# Altium footprint library Flow_Pump.PcbLib: 78 footprints (part 5 of 5)
Each footprint in its own frame and in the unit in brackets; x right, y up, seen from the top. Pads: shape width x height; smd on the part's side, far side on the other; paste and mask are expansions set on the pad; w line width, h text height; cw(c..) or ccw(c..) is an arc to the next point about the centre after c.
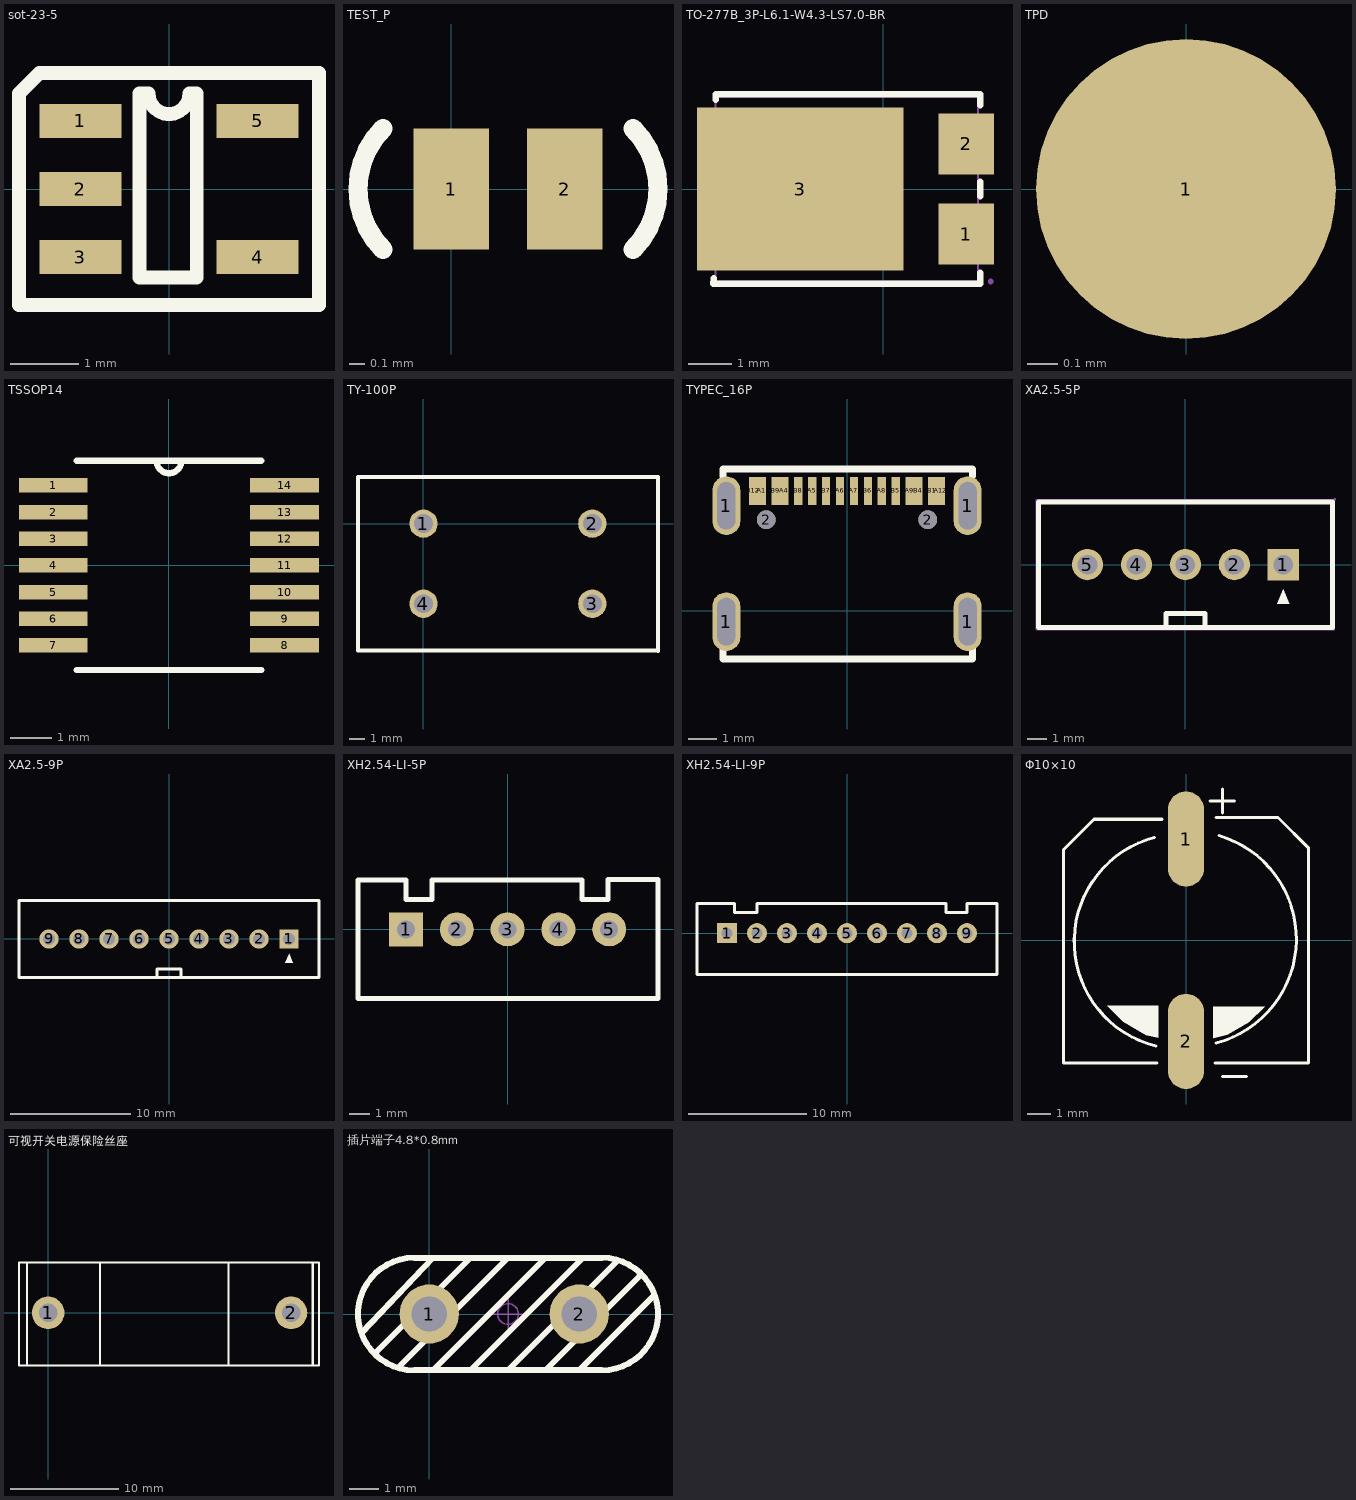
[diagram p4: the footprints below, top view; thin cyan lines are the x and y axes]

## sot-23-5 [mm]
height 1.76
pads (5):
  rect 1.2x0.5 smd: 1(-1.3,1) 2(-1.3,0) 3(-1.3,-1) 4(1.3,-1) 5(1.3,1)
Top Overlay:
  lines w0.203: -2.2,-1.7 -2.2,1.4 -1.9,1.7 2.2,1.7 2.2,-1.7 -2.2,-1.7 ; -0.432,-1.3 -0.432,1.4 -0.3,1.4 ccw(c0,1.4) 0.3,1.4 0.406,1.4 0.406,-1.3 -0.432,-1.3

## TEST_P [mm]
height 0.75
pads (2):
  rect 0.5x0.8 smd: 1(0,0) 2(0.75,0)
Top Overlay:
  lines w0.127: -0.45,-0.4 cw(c-0.05,0) -0.45,0.4 ; 1.2,-0.4 ccw(c0.8,0) 1.2,0.4

## TO-277B_3P-L6.1-W4.3-LS7.0-BR [mm]
height 0.75
pads (3):
  rect 1.29x1.422 smd: 1(1.933,-1.05) 2(1.933,1.05)
  rect 4.8x3.8 smd: 3(-1.933,0)
Top Overlay:
  lines w0.152: -3.949,-2.08 -3.95,-2.2 2.25,-2.2 2.25,-1.948 ; -3.901,2.08 -3.9,2.2 2.25,2.2 2.25,1.948 ; 2.25,-0.165 2.25,0.165
Mechanical 6:
  region: -0.6,0.7 -0.6,-0.7 -1.6,0
Mechanical 15:
  region: 1.5,-0.5 2.5,-0.5 2.5,-1.6 1.5,-1.6
  region: 1.5,1.6 2.5,1.6 2.5,0.5 1.5,0.5
  region: -3.95,-1.8 -3.95,-1.1 -4.25,-1.1 -4.25,1.1 -3.9,1.1 -3.9,1.7 0.25,1.7 0.25,-1.8
  region: 2.56,-2.15 2.56,-2.125 2.525,-2.09 2.475,-2.09 2.44,-2.125 2.44,-2.15 2.44,-2.175 2.475,-2.21 2.525,-2.21 2.56,-2.175 2.56,-2.15
  lines w0.051: -3.9,-2.15 2.2,-2.15 2.2,2.15 -3.9,2.15 -3.9,-2.15

## TPD [mm]
height 1.4
pads (1):
  round 1 smd: 1(0,0)

## TSSOP14 [mil]
height 29.53
pads (14):
  rect 66x14 smd: 1(-111,76.77) 2(-111,51.18) 3(-111,25.59) 4(-111,0) 5(-111,-25.59) 6(-111,-51.18) 7(-111,-76.77) 8(111,-76.77) 9(111,-51.18) 10(111,-25.59) 11(111,0) 12(111,25.59) 13(111,51.18) 14(111,76.77)
Top Overlay:
  lines w6: -88.5,-100.5 88.5,-100.5 ; -88.5,100.5 88.5,100.5 ; -12,100.5 ccw(c0,100.5) 12,100.5

## TY-100P [mm]
height 0.75
pads (4):
  round 1.8 hole 1.2: 1(0,0) 2(10.7,0) 3(10.7,-5.08) 4(0,-5.08)
Top Overlay:
  lines w0.254: 14.85,-8.04 -4.15,-8.04 -4.15,2.96 14.85,2.96 ; 14.859,-8.079 14.859,2.921

## TYPEC_16P [mm]
height 0.75
pads (22):
  oval 1x2.1 hole 0.65 slot 1.7 at 90 deg: 1(-4.32,-0.391) 1(-4.32,3.759) 1(4.32,-0.391) 1(4.32,3.759)
  round 0.67 hole 0.67: 2(-2.89,3.259) 2(2.89,3.259)
  rect 0.3x1 smd: A1(-3.05,4.293) A4(-2.25,4.293) A5(-1.25,4.293) A6(-0.25,4.293) A7(0.25,4.293) A8(1.25,4.293) A9(2.25,4.293) A12(3.35,4.293) B1(3.05,4.293) B4(2.55,4.293) B5(1.75,4.293) B6(0.75,4.293) B7(-0.75,4.293) B8(-1.75,4.293) B9(-2.55,4.293) B12(-3.35,4.293)
Top Overlay:
  lines w0.254: -4.445,-1.219 -4.445,-1.727 4.495,-1.727 4.495,-1.193 ; -4.445,4.801 -4.445,5.073 4.495,5.073 4.495,4.825

## XA2.5-5P [mm] "间距2.5mm"
pads (5):
  rect 1.6x1.6 hole 1: 1(5,0)
  round 1.6 hole 1: 2(2.5,0) 3(0,0) 4(-2.5,0) 5(-5,0)
Top Overlay:
  region: 4.7,-2 5.3,-2 5,-1.25
  lines w0.254: -7.5,-3.2 7.5,-3.2 7.5,3.2 -7.5,3.2 -7.5,-3.2 ; -1,-3.2 1,-3.2 1,-2.5 -1,-2.5 -1,-3.2
Mechanical 15:
  region: 7.687,3.327 7.687,3.352 7.652,3.387 7.602,3.387 7.567,3.352 7.567,3.327 7.567,3.302 7.602,3.267 7.652,3.267 7.687,3.302
  region: 5.4,0 5.4,0.08 5.339,0.227 5.227,0.339 5.08,0.4 4.92,0.4 4.773,0.339 4.661,0.227 4.6,0.08 4.6,0 4.6,-0.08 4.661,-0.227 4.773,-0.339 4.92,-0.4 5.08,-0.4 5.227,-0.339 5.339,-0.227 5.4,-0.08
  region: 2.9,0 2.9,0.08 2.839,0.227 2.727,0.339 2.58,0.4 2.421,0.4 2.274,0.339 2.161,0.227 2.1,0.08 2.1,0 2.1,-0.08 2.161,-0.227 2.274,-0.339 2.421,-0.4 2.58,-0.4 2.727,-0.339 2.839,-0.227 2.9,-0.08
  region: 0.4,0 0.4,0.08 0.339,0.227 0.227,0.339 0.08,0.4 -0.08,0.4 -0.227,0.339 -0.339,0.227 -0.4,0.08 -0.4,0 -0.4,-0.08 -0.339,-0.227 -0.227,-0.339 -0.08,-0.4 0.08,-0.4 0.227,-0.339 0.339,-0.227 0.4,-0.08
  region: -2.1,0 -2.1,0.08 -2.161,0.227 -2.274,0.339 -2.421,0.4 -2.58,0.4 -2.727,0.339 -2.839,0.227 -2.9,0.08 -2.9,0 -2.9,-0.08 -2.839,-0.227 -2.727,-0.339 -2.58,-0.4 -2.421,-0.4 -2.274,-0.339 -2.161,-0.227 -2.1,-0.08
  region: -4.6,0 -4.6,0.08 -4.661,0.227 -4.773,0.339 -4.92,0.4 -5.08,0.4 -5.227,0.339 -5.339,0.227 -5.4,0.08 -5.4,0 -5.4,-0.08 -5.339,-0.227 -5.227,-0.339 -5.08,-0.4 -4.92,-0.4 -4.773,-0.339 -4.661,-0.227 -4.6,-0.08
  lines w0.051: -7.627,-3.327 7.627,-3.327 7.627,3.327 -7.627,3.327 -7.627,-3.327

## XA2.5-9P [mm] "间距2.5mm"
pads (9):
  rect 1.6x1.6 hole 1: 1(10,0)
  round 1.6 hole 1: 2(7.5,0) 3(5,0) 4(2.5,0) 5(0,0) 6(-2.5,0) 7(-5,0) 8(-7.5,0) 9(-10,0)
Top Overlay:
  region: 9.7,-2 10.3,-2 10,-1.25
  lines w0.254: -1,-3.2 -1,-2.5 1,-2.5 1,-3.2 ; 4,-3.2 6,-3.2 ; -12.5,-3.2 -12.5,3.2 12.5,3.2 12.5,-3.2 -12.5,-3.2

## XH2.54-LI-5P [mm] "接插件，5P  淘宝ID:黄晶宝石   店铺网址:https://shop463601444.taobao.com"
pads (5):
  rect 1.7x1.7 hole 0.9: 1(-5.08,0)
  round 1.7 hole 0.9: 2(-2.54,0) 3(0,0) 4(2.54,0) 5(5.08,0)
Top Overlay:
  lines w0.254: -3.78,2.438 -3.78,1.5 -5.08,1.5 -5.08,2.464 -7.48,2.464 -7.48,-3.454 7.52,-3.454 7.52,2.489 5.02,2.489 5.02,1.5 3.72,1.5 3.72,2.464 -3.78,2.464
3D body "XH2.54-5P.STEP": height 7.03, standoff -2.47, extent -7.58,-3.3 7.58,2.4

## XH2.54-LI-9P [mm] "接插件，9P"
pads (9):
  rect 1.7x1.7 hole 0.9: 1(-10.16,0)
  round 1.7 hole 0.9: 2(-7.62,0) 3(-5.08,0) 4(-2.54,0) 5(0,0) 6(2.54,0) 7(5.08,0) 8(7.62,0) 9(10.16,0)
Top Overlay:
  lines w0.254: -12.7,-3.5 12.7,-3.5 12.7,2.5 10.16,2.5 10.16,1.75 8.382,1.75 8.382,2.5 -7.62,2.5 -7.62,1.75 -9.525,1.75 -9.525,2.5 -12.7,2.5 -12.7,-3.5
3D body "XH2.54-9P.STEP": height 7.05, standoff -3.35, extent -12.66,-3.3 12.66,2.4

## Φ10×10 [mm]
height 0.75
pads (2):
  oval 1.524x4 smd: 1(0,4.25) 2(0,-4.25)
Top Overlay:
  region: -1.664,-4 -2.235,-3.429 -1.829,-3.429 -1.156,-4.102
  region: -2.642,-3.429 -2.235,-3.429 -1.664,-4
  region: -2.235,-3.429 -2.642,-3.429 -3.315,-2.756
  region: -1.156,-4.102 -2.502,-2.756 -3.315,-2.756
  region: -1.156,-2.756 -1.156,-4.102 -2.502,-2.756
  region: 1.727,-3.962 2.235,-3.454 1.803,-3.454 1.143,-4.115
  region: 2.642,-3.454 2.235,-3.454 1.727,-3.962
  region: 3.302,-2.794 2.642,-3.454 2.222,-3.454
  region: 1.143,-4.115 2.464,-2.794 3.302,-2.794
  region: 1.143,-2.794 1.143,-4.115 2.464,-2.794
  lines w0.127: -5.15,3.81 -5.15,-5.15 -1.213,-5.15 ; -5.137,3.81 -3.867,5.08 -1.016,5.08 ; -1.33,4.314 ccw(c-0.173,-0.058) -1.27,-4.445 ; 1.016,5.842 2.032,5.842 ; 1.213,-5.15 5.15,-5.15 5.15,3.867 3.867,5.15 1.27,5.15 ; 1.27,-4.318 ccw(c0.113,0.054) 1.389,4.392 ; 1.524,-5.715 2.54,-5.715 ; 1.524,5.334 1.524,6.35

## 可视开关电源保险丝座 [mm]
height 1.55
pads (2):
  round 3 hole 1.7: 1(0,0) 2(22.4,0)
Top Overlay:
  lines w0.2: -1.947,-4.863 -1.947,4.641 ; 4.784,-4.842 4.784,4.62 ; 16.637,-4.842 16.637,4.62 ; 24.405,-4.8 24.405,4.641 ; -2.688,-4.863 24.977,-4.863 24.977,4.641 -2.688,4.641 -2.688,-4.863

## 插片端子4.8*0.8mm [mm] "4.8*0.8mm"
pads (2):
  round 2 hole 1.2: 1(0,0) 2(5.08,0)
Top Overlay:
  lines w0.203: -2.286,-0.635 0.127,1.905 ; -1.778,-1.27 1.397,1.905 ; -1.016,-1.778 2.667,1.905 ; 0.127,-1.905 3.937,1.905 ; 1.397,-1.905 5.207,1.905 ; 2.667,-1.905 6.35,1.778 ; 3.937,-1.905 7.112,1.27 ; 5.08,-1.905 7.62,0.635 ; -0.508,-1.905 cw(c-0.508,0) -0.508,1.905 5.842,1.905 cw(c5.842,0) 5.842,-1.905 -0.508,-1.905
Mechanical 15:
  circle w0.05: c2.667,0 r0.35
  lines w0.05: 2.167,0 3.167,0 ; 2.667,-0.5 2.667,0.5
3D body "DJ610-4.8x0.5x14.STEP": height 8.55, standoff -3.45, extent -0.585,-0.25 5.665,0.25